# EAGLE library part MAX3949 (library yapo)
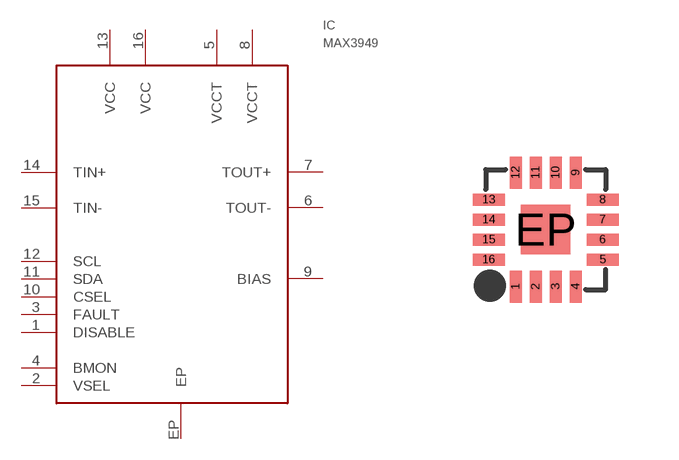
[diagram p42: symbol with the pads of TQFN16; footprint TQFN16]

Designator prefix IC

## MAX3949  [TQFN16]
1  DISABLE
2  VSEL
3  FAULT
4  BMON
5  VCCT
6  TOUT-
7  TOUT+
8  VCCT
9  BIAS
10  CSEL
11  SDA
12  SCL
13  VCC
14  TIN+
15  TIN-
16  VCC
EP  EP

## Footprint TQFN16 (pad centres in mm)
smd 0.3 x 0.8: 1 -0.75,-1.425; 2 -0.25,-1.425; 3 0.25,-1.425; 4 0.75,-1.425; 9 0.75,1.425; 10 0.25,1.425; 11 -0.25,1.425; 12 -0.75,1.425
smd 0.8 x 0.3: 5 1.425,-0.75; 6 1.425,-0.25; 7 1.425,0.25; 8 1.425,0.75; 13 -1.425,0.75; 14 -1.425,0.25; 15 -1.425,-0.25; 16 -1.425,-0.75
smd 1.23 x 1.23: EP 0,0